# EAGLE library part 6623XX235922_662314235922 (library WR-MPC3)
WR-MPC3 3.00 mm SMT Male Dual Row Vertical Header with THT Retention Clip (Reel) KIND PROPERTIES Pitch 3 mm Gender Male MATERIAL PROPERTIES Insulator Material LCP Insulator Flammability Rating UL94 V-0 Insulator Color Black Contact Material Copper Alloy Contact Plating Tin Contact Type Stamped GENERAL INFORMATION Operating Temperature -40 up to +105 °C Working Voltage 250 V (AC) Withstanding Voltage 1500 V (AC) Contact Resistance 10 mΩ RISO 1000 MΩ CERTIFICATION UL Approval E323964 WIRE PROPERTIES Packaging Tape and Reel with Cap <https://katalog.we-online.com/media/images/v2/o33178v209%20Family_WR-MPC3_662xxx235922.jpg> Details see: https://katalog.we-online.com/en/em/MPC3_3_00_SMT_MALE_DUAL_ROW_VERTICAL_HEADER_W_THT_RETENTION_CLIP_REEL_6623XX235922 Created by Yingchun,Shan 2019-11-13 2019 (C) Würth Elektronik
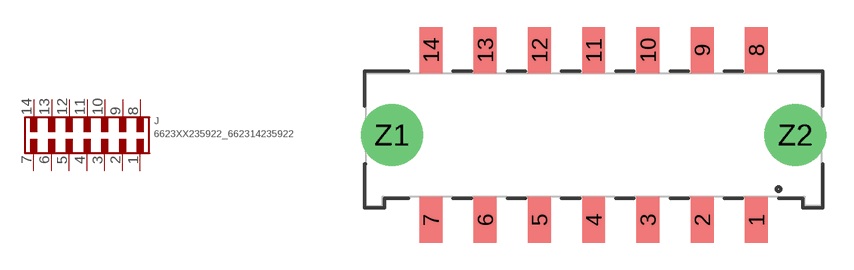
[diagram p6: symbol with the pads of 662314235922; footprint 662314235922]

Designator prefix J

## 6623XX235922_662314235922 (CONTACT-RESISTANCE: 10Ohm; DATASHEET-URL: https://www.we-online.com/redexpert/spec/662314235922?ae; GENDER: Male; IR: 5A; MOUNT: SMT; PART-NUMBER: 662314235922; PINS: 14; PITCH: 3mm; ROWS: Dual; TOL-R: max.; TYPE: Vertical; VALUE: 662314235922; WORKING-VOLTAGE: 250V(AC))  [662314235922]
1  1  pas
2  2  pas
3  3  pas
4  4  pas
5  5  pas
6  6  pas
7  7  pas
8  8  pas
9  9  pas
10  10  pas
11  11  pas
12  12  pas
13  13  pas
14  14  pas

## Footprint 662314235922 (pad centres in mm)
WR-MPC3 3.00 mm SMT Male Dual Row Vertical Header with THT Retention Clip (Reel),14Pins
smd 1.27 x 2.54: 1 9,-4.7; 2 6,-4.7; 3 3,-4.7; 4 0,-4.7; 5 -3,-4.7; 6 -6,-4.7; 7 -9,-4.7; 8 9,4.7; 9 6,4.7; 10 3,4.7; 11 0,4.7; 12 -3,4.7; 13 -6,4.7; 14 -9,4.7
drill 2.41: Z1 -11.16,0; Z2 11.16,0